# EAGLE library part MCP140X (library SquantorIC)
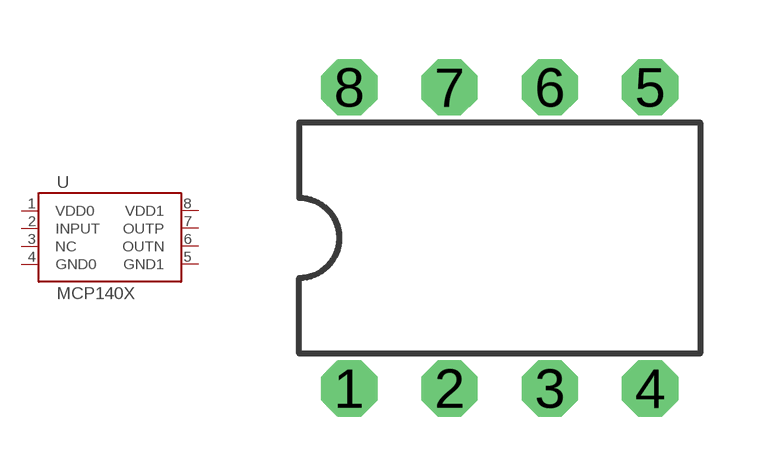
[diagram p12: symbol with the pads of DIL08_0.9MM_OCT; footprint DIL08_0.9MM_OCT]

Designator prefix -

## MCP140XDIL08_09MM  [DIL08_0.9MM_OCT]
1  VDD0
2  INPUT  in
3  NC  in
4  GND0  pwr
5  GND1  in
6  OUTN  out
7  OUTP  pwr
8  VDD1

## Footprint DIL08_0.9MM_OCT (pad centres in mm)
drill 0.8 pad 1.422 octagon: 1 -3.81,-3.81; 2 -1.27,-3.81; 3 1.27,-3.81; 4 3.81,-3.81; 5 3.81,3.81; 6 1.27,3.81; 7 -1.27,3.81; 8 -3.81,3.81